# Altium schematic symbol library HW_ADHERENT_SYSCTRL_R1_L3.SchLib: 1629 symbols (part 2 of 31)
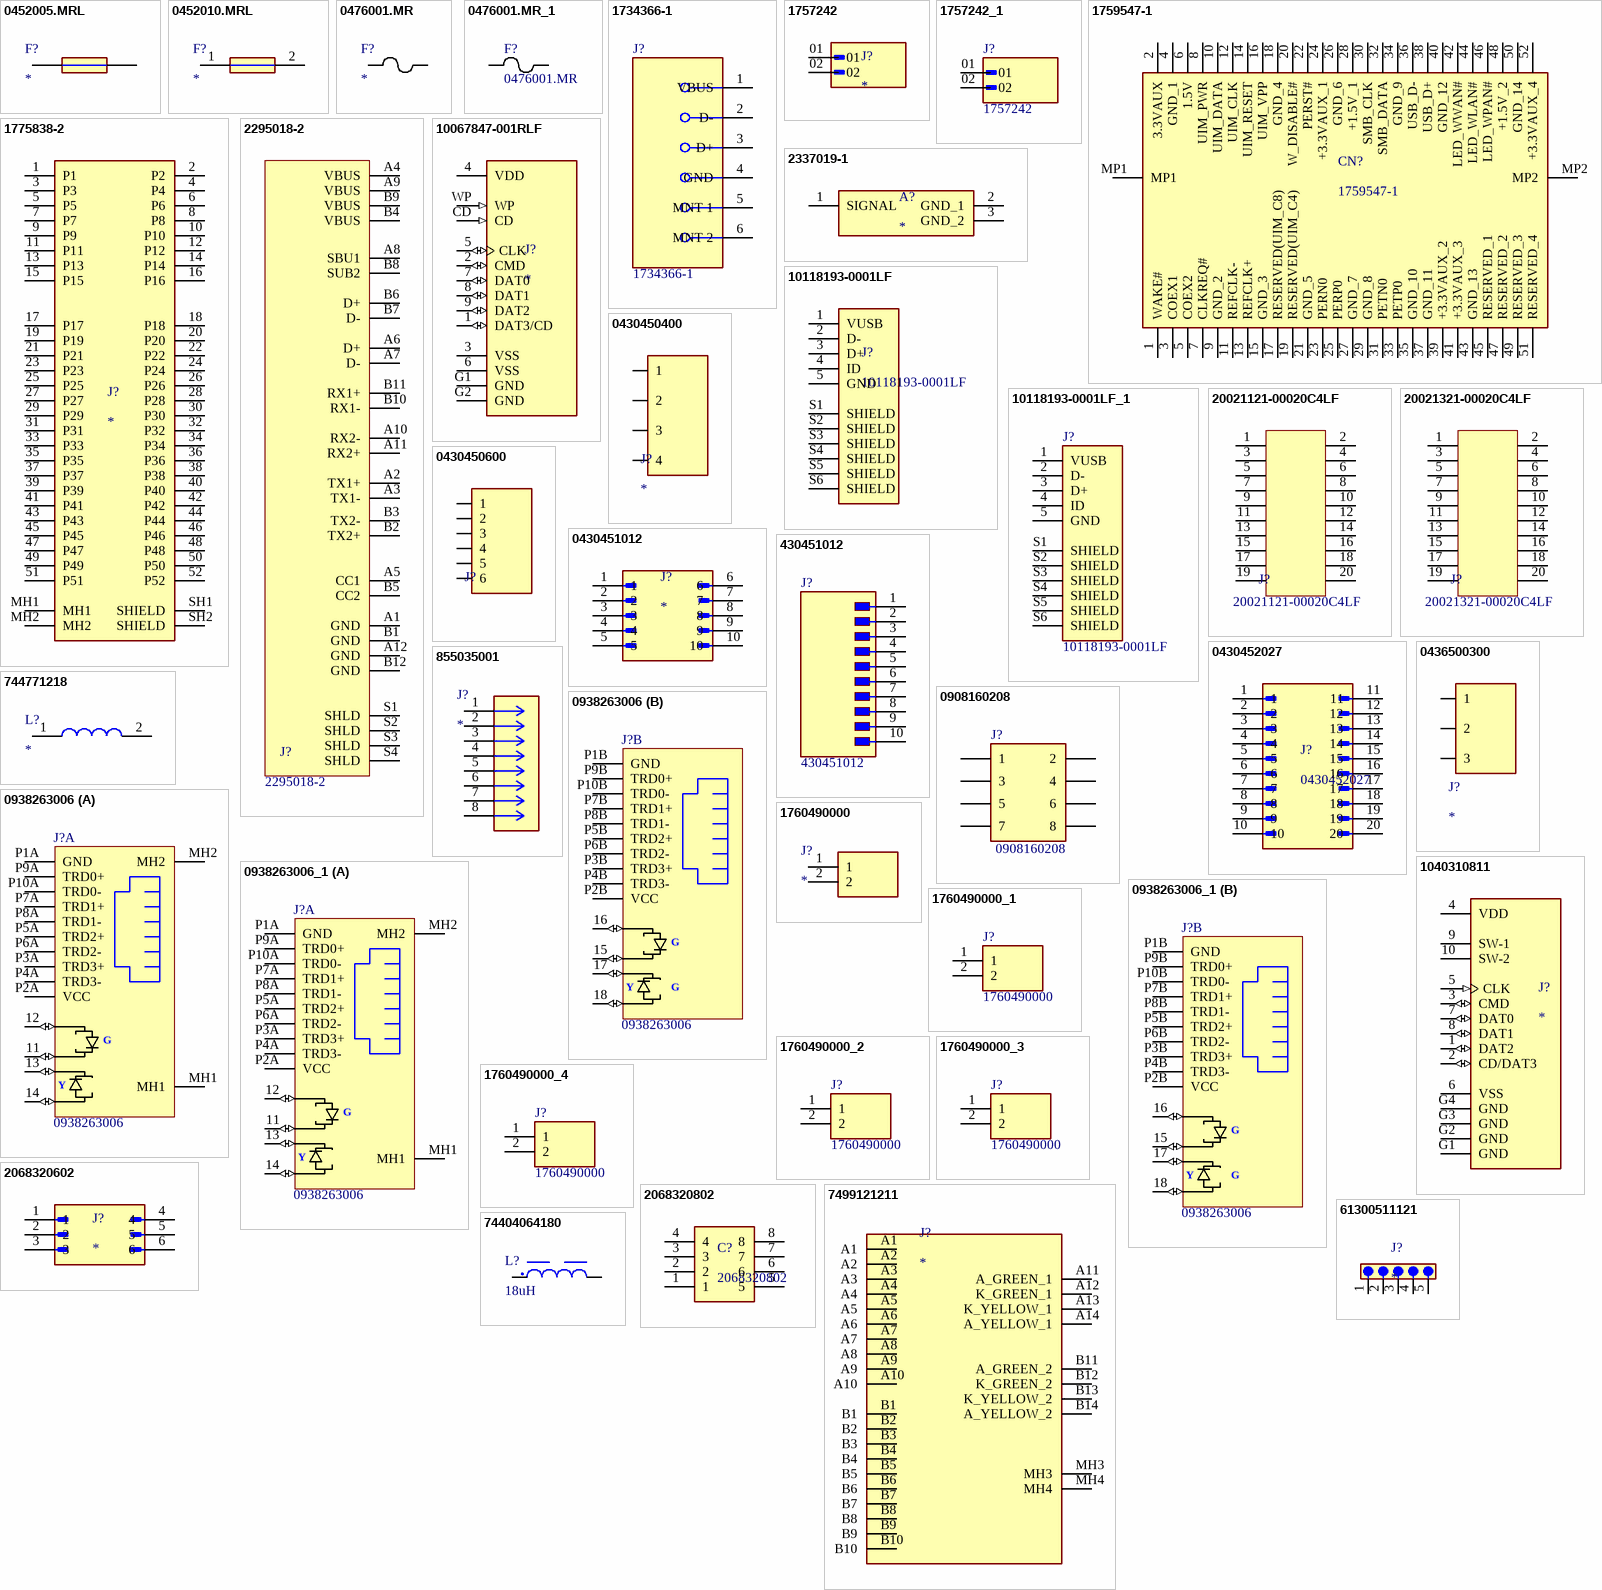
[diagram p52: symbols 0452005.MRL to 74404064180]

## 1759547-1
designator CN?
Conn Mini PCI Express Card Edge SKT 52 POS Solder RA SMD T/R; Manufacturer: TE Connectivity; Circuit Application: 5778ConnectorType; Current Rating: 500mA; Sealable: 5964ProductFeature; Stack Height: 7mm; Supplier 1: Digikey; Manufacturer Part Number: 1759547-1; RoHS: Yes; Category: Card Edge Connectors; Stock 1: 4950; Pricing 1: 450=1.16253, 900=1.05803, 1350=0.94701, 3150=0.87516, 11250=0.8083 (USD); ComponentLink1URL: https://datasheet.ciiva.com/29728/eng-cd-1759547-h1-29728549.pdf?src-supplier=Digikey; ComponentLink1Description: https://datasheet.ciiva.com/29728/eng-cd-1759547-h1-29728549.pdf?src-supplier=Digikey; Supplier Part Number 1: A117296TR-ND
footprint 17595471
pins: 1 WAKE#, 2 3.3VAUX, 3 COEX1, 4 GND_1, 5 COEX2, 6 1.5V, 7 CLKREQ#, 8 UIM_PWR, 9 GND_2, 10 UIM_DATA, 11 REFCLK-, 12 UIM_CLK, 13 REFCLK+, 14 UIM_RESET, 15 GND_3, 16 UIM_VPP, 17 RESERVED(UIM_C8), 18 GND_4, 19 RESERVED(UIM_C4), 20 W_DISABLE#, 21 GND_5, 22 PERST#, 23 PERN0, 24 +3.3VAUX_1, 25 PERP0, 26 GND_6, 27 GND_7, 28 +1.5V_1, 29 GND_8, 30 SMB_CLK, 31 PETN0, 32 SMB_DATA, 33 PETP0, 34 GND_9, 35 GND_10, 36 USB_D-, 37 GND_11, 38 USB_D+, 39 +3.3VAUX_2, 40 GND_12, 41 +3.3VAUX_3, 42 LED_WWAN#, 43 GND_13, 44 LED_WLAN#, 45 RESERVED_1, 46 LED_WPAN#, 47 RESERVED_2, 48 +1.5V_2, 49 RESERVED_3, 50 GND_14, 51 RESERVED_4, 52 +3.3VAUX_4, MP1, MP2

## 1775838-2
designator J?
Conn Mini PCI Express Card Edge SKT 52 POS 0.8mm Solder RA SMD T/R; Manufacturer: TE Connectivity AMP; Manufacturer Part Number: 1775838-2; Connector Type: Receptacle; High Temperature Housing: Yes; Number of Positions: 52; PCB Mount Retention: Without; PCB Mounting Orientation: Vertical; Stackable: No; Gender: Female; Circuit Application: 5778ConnectorType; Current Rating: 500mA; Sealable: 5964ProductFeature; Voltage Rating: 1.5V; Row Spacing: 0.031inch; Stack Height: 5.6mm; Supplier 1: Digikey; RoHS: Yes; Category: Card Edge Connectors; Stock 1: 7500; Pricing 1: 500=0.83842, 1000=0.75098, 2500=0.69955, 5000=0.67897, 12500=0.6366 (USD); Mount: Surface Mount; Contact Plating: Gold; Contact Material: Copper Alloy; Housing Color: Black; Housing Material: Thermoplastic; Color: Black; Insulation Material: Polymer; Min Operating Temperature: -55°C; Max Operating Temperature: 85°C; Number of Rows: 2; Packaging: Tape and Reel; Termination: Solder; Orientation: Right Angle; Package Quantity: 500; Series: -; Contact Type: -; Pitch: 0.8mm; Lead Free: Lead Free; ELV: Compliant; Flammability Rating: UL94 V-0; RoHS Compliant: Yes; ComponentLink1URL: https://datasheet.ciiva.com/10924/eng-ds-8-1773459-7-express-mini-card-qrg-1011-10924539.pdf?src-supplier=Avnet; ComponentLink1Description: https://datasheet.ciiva.com/10924/eng-ds-8-1773459-7-express-mini-card-qrg-1011-10924539.pdf?src-supplier=Avnet; ComponentLink2URL: https://datasheet.ciiva.com/48777/eng-ds-8-1773459-7-express-mini-card-qrg-1011-48777258.pdf?src-supplier=Onlinecomponents.com; ComponentLink2Description: https://datasheet.ciiva.com/48777/eng-ds-8-1773459-7-express-mini-card-qrg-1011-48777258.pdf?src-supplier=Onlinecomponents.com; Supplier Part Number 1: A123340TR-ND
footprint TE_1775838-2
pins: 1 P1, 2 P2, 3 P3, 4 P4, 5 P5, 6 P6, 7 P7, 8 P8, 9 P9, 10 P10, 11 P11, 12 P12, 13 P13, 14 P14, 15 P15, 16 P16, 17 P17, 18 P18, 19 P19, 20 P20, 21 P21, 22 P22, 23 P23, 24 P24, 25 P25, 26 P26, 27 P27, 28 P28, 29 P29, 30 P30, 31 P31, 32 P32, 33 P33, 34 P34, 35 P35, 36 P36, 37 P37, 38 P38, 39 P39, 40 P40, 41 P41, 42 P42, 43 P43, 44 P44, 45 P45, 46 P46, 47 P47, 48 P48, 49 P49, 50 P50, 51 P51, 52 P52, MH1, MH2, SH1 SHIELD, SH2 SHIELD

## 2295018-2
designator J?, comment Manufacturer Part Number: 2295018-2  (hidden comment: CONN RCPT USB3.1 TYPEC 24POS SMD)
USB-C (USB TYPE-C) USB 3.2 Gen 2 (USB 3.1 Gen 2, Superspeed + (USB 3.1)) Receptacle Connector 24 Position Board Cutout, Surface Mount, Right Angle; Through Hole; Manufacturer: TE Connectivity; Cost 1000: 1.64; Order Code: DIGI: A124377TR-ND; Cost: 2.26
footprint USB Type C, Right, PCB Notched (USB Type C, Right, PCB Notched, TE Connectivity 2295018-2)
pins: A1 GND, A2 TX1+, A3 TX1-, A4 VBUS, A5 CC1, A6 D+, A7 D-, A8 SBU1, A9 VBUS, A10 RX2-, A11 RX2+, A12 GND, B1 GND, B2 TX2+, B3 TX2-, B4 VBUS, B5 CC2, B6 D+, B7 D-, B8 SUB2, B9 VBUS, B10 RX1-, B11 RX1+, B12 GND, S1 SHLD, S2 SHLD, S3 SHLD, S4 SHLD

## 2337019-1
designator A?
RF Connector; Coaxial Connectors MicroCoax receptacle UMCC Gen 1; Manufacturer: TE Connectivity; Manufacturer Part Number: 2337019-1; Body Material: Copper Alloy; Center Contact Plating: Gold; Dielectric Material: Thermoplastic; Connector Type: Receptacle,Male Pin; Impedance: 50R; Max Frequency: 6GHz; Number of Ports: 1; Number of Contacts: 1NUMBER; PCB Mounting Orientation: 5491OrientationType; Sealable: 5964ProductFeature; Supplier 1: Digikey; RoHS: Yes; Category: RF / Coaxial Connectors; Stock 1: 20000; Pricing 1: 10000=0.10043, 30000=0.08976, 50000=0.07784 (USD); Mount: Surface Mount; Contact Material: Copper Alloy; Housing Color: 46Colour; Min Operating Temperature: -40°C; Max Operating Temperature: 85°C; Series: -; Packaging: Cut Tape; Termination: Solder; Frequency: 6GHz; Number of Positions: 1NUMBER; Orientation: 5495OrientationType; Height: 1.4mm; ComponentLink1URL: https://www.te.com/commerce/DocumentDelivery/DDEController?Action=srchrtrv&amp;DocNm=C-2337019&amp;DocType=Customer+Drawing&amp;DocLang=English&src-supplier=Digikey; ComponentLink1Description: https://www.te.com/commerce/DocumentDelivery/DDEController?Action=srchrtrv&amp;DocNm=C-2337019&amp;DocType=Customer+Drawing&amp;DocLang=English&src-supplier=Digikey; ComponentLink2URL: https://datasheet.octopart.com/2337019-1-TE-Connectivity-datasheet-169146699.pdf?src-supplier=Sager+Electronics; ComponentLink2Description: https://datasheet.octopart.com/2337019-1-TE-Connectivity-datasheet-169146699.pdf?src-supplier=Sager+Electronics; Supplier Part Number 1: A144746TR-ND
footprint 23370191
pins: 1 SIGNAL, 2 GND_1, 3 GND_2

## 10067847-001RLF
designator J?
CONN SD CARD PUSH-PUSH SMD; Manufacturer: Amphenol ICC / FCI; Manufacturer Part Number: 10067847-001RLF; Number of Contacts: 11; Voltage Rating (AC): 17V; Current Rating: 500mA; Insulation Resistance: 1GR; Gender: Female; Pitch: 3.325mm; Supplier 1: Digikey; RoHS: No; Category: Memory Connectors; Stock 1: 34800; Pricing 1: 300=1,54767, 600=1,42548, 900=1,38476, 1500=1,18112, 3000=1,14039, 7500=1,08337 (USD); Mount: Surface Mount,Standard; Contact Plating: Gold; Contact Material: Copper Alloy,Copper; Housing Material: Polymer; Min Operating Temperature: -40°C; Max Operating Temperature: 105°C; Orientation: Right Angle; Termination: Solder; Number of Rows: 1; Series: -; Packaging: Tape and Reel; Package Quantity: 300; Length: 28.5mm; Width: 29mm; Height: 2.8mm; Depth: 2.8mm; Radiation Hardening: No; Reach SVHC Compliant: No; Flammability Rating: UL94 V-0; ComponentLink1URL: http://components.arrow.com/part/dataview/46501167S9941171N8314?src-supplier=Arrow+Electronics; ComponentLink1Description: http://components.arrow.com/part/dataview/46501167S9941171N8314?src-supplier=Arrow+Electronics; Supplier Part Number 1: 609-3956-2-ND
footprint AMPHENOL_10067847-001RLF
pins: 1 DAT3/CD (io), 2 CMD (io), 3 VSS, 4 VDD (power), 5 CLK (io), 6 VSS, 7 DAT0 (io), 8 DAT1 (io), 9 DAT2 (io), CD (in), G1 GND, G2 GND, WP (in)

## 10118193-0001LF
designator J?
Right Angle Surface Mount Mount Female USB Connector 100 V ac 1.8A | Amphenol FCI (Amphenol CS) 10118193-0001LF; MF: Amphenol ICC; SnapEDA_Link: https://www.snapeda.com/parts/10118193-0001LF/Amphenol+FCI/view-part/?ref=snap; Package: None; Value: *; MP: 10118193-0001LF; Check_prices: https://www.snapeda.com/parts/10118193-0001LF/Amphenol+FCI/view-part/?ref=eda
footprint AMPHENOL_10118193-0001LF
pins: 1 VUSB, 2 D-, 3 D+, 4 ID, 5 GND, S1 SHIELD, S2 SHIELD, S3 SHIELD, S4 SHIELD, S5 SHIELD, S6 SHIELD

## 10118193-0001LF_1
designator J?, comment 10118193-0001LF
Right Angle Surface Mount Mount Female USB Connector 100 V ac 1.8A | Amphenol FCI (Amphenol CS) 10118193-0001LF; MF: Amphenol ICC; SnapEDA_Link: https://www.snapeda.com/parts/10118193-0001LF/Amphenol+FCI/view-part/?ref=snap; Package: None; Value: *; MP: 10118193-0001LF; Check_prices: https://www.snapeda.com/parts/10118193-0001LF/Amphenol+FCI/view-part/?ref=eda
footprint AMPHENOL_10118193-0001LF
pins: 1 VUSB, 2 D-, 3 D+, 4 ID, 5 GND, S1 SHIELD, S2 SHIELD, S3 SHIELD, S4 SHIELD, S5 SHIELD, S6 SHIELD

## 20021121-00020C4LF
designator J?, comment Manufacturer Part Number: 20021121-00020C4LF  (hidden comment: CONN HEADER SMD 20POS 1.27MM)
Connector Header Surface Mount 20 position 0.050" (1.27mm); Order Code: DIGI: 609-3698-2-ND
footprint 20pos 1.27mm Header SMD
pins: 1, 2, 3, 4, 5, 6, 7, 8, 9, 10, 11, 12, 13, 14, 15, 16, 17, 18, 19, 20

## 20021321-00020C4LF
designator J?, comment Manufacturer Part Number: 20021321-00020C4LF  (hidden comment: CONN RCPT 20POS 0.05 GOLD SMD)
20 Position Receptacle Connector 0.050" (1.27mm) Surface Mount Gold; Order Code: DIGI: 609-3709-2-ND
footprint 20pos 1.27mm Socket SMD
pins: 1, 2, 3, 4, 5, 6, 7, 8, 9, 10, 11, 12, 13, 14, 15, 16, 17, 18, 19, 20

## 0430450400
designator J?
Connector Header Through Hole, Right Angle 4 position 0.118" (3.00mm); Manufacturer Part Number: 0430450400; Manufacturer: MOLEX; Supplier: Digi; WM1814-ND
footprint CONN_SD-43045-001_04_MOL
pins: 1, 2, 3, 4

## 0430450600
designator J?
Connector Header Through Hole, Right Angle 6 position 0.118" (3.00mm)
footprint CONN_SD-43045-001_06_MOL
pins: 1, 2, 3, 4, 5, 6

## 0430451012
designator J?
Header 2 Row Vertical Polarizing Peg 10Pin Tin Plate SMT/Glow Wire Kinked Leads; Manufacturer: Molex; Manufacturer Part Number: 0430451012; Supplier 1: Digikey; RoHS: Yes; Stock 1: 57028; Pricing 1: 1=2.6, 10=2.215, 80=1.82975, 1224=1.44455, 6120=1.28084 (USD); Supplier Part Number 1: WM1793-ND
footprint MOLEX_430451012
pins: 1, 2, 3, 4, 5, 6, 7, 8, 9, 10

## 430451012
designator J?
Micro-Fit 3.0 Right-Angle Header, 3.00mm Pitch, Dual Row, 10 Circuits, with Solder Tab, Glow-Wire Capable, Black, Tape and Reel; Manufacturer_Name: Molex; Geometry.Height: 10.16mm; Manufactuer part Number: 430451012; Mouser Part Number: *; Mouser Price/Stock: *; Arrow Part Number: *; Arrow Price/Stock: *; Datasheet Link: https://www.molex.com/pdm_docs/sd/430450209_sd.pdf
footprint 4304510YY_12
pins: 1, 2, 3, 4, 5, 6, 7, 8, 9, 10

## 0430452027
designator J?
Conn Power HDR 20 POS 3mm Solder ST Thru-Hole 20 Terminal 1 Port Micro-Fit 3.0™ Frame; Manufacturer: Molex; Supplier 1: Digikey; Manufacturer Part Number: 0430452027; RoHS: Yes; Stock 1: 1475; Pricing 1: 1=5.55, 10=4.88, 80=3.88175, 1296=3.21633, 2592=2.99452 (USD); ComponentLink1URL: https://datasheet.octopart.com/43045-2027-Molex-datasheet-101582732.pdf?src-supplier=Newark; ComponentLink1Description: https://datasheet.octopart.com/43045-2027-Molex-datasheet-101582732.pdf?src-supplier=Newark; Supplier Part Number 1: WM10726-ND
footprint MOLEX_430452027
pins: 1, 2, 3, 4, 5, 6, 7, 8, 9, 10, 11, 12, 13, 14, 15, 16, 17, 18, 19, 20

## 0436500300
designator J?
Connector Header Through Hole, Right Angle 3 position 0.118" (3.00mm)
footprint CONN_SD-43650-001_03_MOL
pins: 1, 2, 3

## 744771218
designator L?
Inductor; Manufacturer_Name: Wurth Elektronik; Manufacturer_Part_Number: 744771218
footprint WE-PD_1260/1245/1280/121054
pins: 1, 2

## 855035001
designator J?
MP: 855035001; Package: None; Price: None; Value: *; Availability: Unavailable
footprint CONN_855035-101_MOL
pins: 1, 2, 3, 4, 5, 6, 7, 8

## 0908160208
designator J?, comment Manufacturer Part Number: 0908160208  (hidden comment: CONN HEADER SMD 8POS 1.27MM)
Connector Header Surface Mount 8 position 0.050" (1.27mm); Order Code: Digi: WM14393TR-ND
footprint Molex Picoflex header 8 SMT latching
pins: 1, 2, 3, 4, 5, 6, 7, 8

## 0938263006
designator J?
MXMAG DUAL PORT 8 CORE GIG W/ LE; Manufacturer: Molex; Manufacturer Part Number: 0938263006; Value: 0938263006
footprint DUAL_ETH_0938263008 (0938263008)
part A pins: 11 (io), 12 (io), 13 (io), 14 (io), MH1 (power), MH2 (power), P1A GND, P2A VCC, P3A TRD3+, P4A TRD3-, P5A TRD2+, P6A TRD2-, P7A TRD1+, P8A TRD1-, P9A TRD0+, P10A TRD0-
part B pins: 15 (io), 16 (io), 17 (io), 18 (io), P1B GND, P2B VCC, P3B TRD3+, P4B TRD3-, P5B TRD2+, P6B TRD2-, P7B TRD1+, P8B TRD1-, P9B TRD0+, P10B TRD0-
1 alternate drawing of the same symbol
part A text: G; Y
part B text: G; Y

## 0938263006_1
designator J?, comment 0938263006
MXMAG DUAL PORT 8 CORE GIG W/ LE; Manufacturer: Molex; Manufacturer Part Number: 0938263006; Value: 0938263006
footprint DUAL_ETH_0938263008 (0938263008)
part A pins: 11 (io), 12 (io), 13 (io), 14 (io), MH1 (power), MH2 (power), P1A GND, P2A VCC, P3A TRD3+, P4A TRD3-, P5A TRD2+, P6A TRD2-, P7A TRD1+, P8A TRD1-, P9A TRD0+, P10A TRD0-
part B pins: 15 (io), 16 (io), 17 (io), 18 (io), P1B GND, P2B VCC, P3B TRD3+, P4B TRD3-, P5B TRD2+, P6B TRD2-, P7B TRD1+, P8B TRD1-, P9B TRD0+, P10B TRD0-
1 alternate drawing of the same symbol
part A text: G; Y
part B text: G; Y

## 1040310811
designator J?
1.10mm Pitch microSD Memory Card Connector, SMT, Push-Pull Type, 1.42mm Height, with Detect Switch; Manufacturer: Molex; Manufacturer Part Number: 1040310811; Number of Contacts: 8; Gender: Female; Pitch: 1.1mm; Supplier 1: Digikey; RoHS: Yes; Category: Memory Connectors; Stock 1: 36000; Pricing 1: 2000=1.20529, 4000=1.16372, 6000=1.10554 (USD); Mount: Surface Mount; Contact Material: Bronze; Contact Plating: Gold; Housing Material: Polymer; Min Operating Temperature: -25°C; Max Operating Temperature: 85°C; Number of Rows: 1; Orientation: Right Angle; Packaging: Tape and Reel; Termination: Solder; Number of Circuits: 8; Series: 103041; Length: 11.14mm; Width: 11.4mm; Depth: 11.4mm; Radiation Hardening: No; Halogen Free: Low Halogen; Reach SVHC Compliant: Unknown; ComponentLink1URL: https://datasheet.ciiva.com/4581/1040310811-memory-card-socket-153593-4581012.pdf?src-supplier=Mouser; ComponentLink1Description: https://datasheet.ciiva.com/4581/1040310811-memory-card-socket-153593-4581012.pdf?src-supplier=Mouser; ComponentLink2URL: https://datasheet.ciiva.com/683/1040310811-sd-683579.pdf?src-supplier=Digikey; ComponentLink2Description: https://datasheet.ciiva.com/683/1040310811-sd-683579.pdf?src-supplier=Digikey; ComponentLink3URL: https://datasheet.ciiva.com/16655/1040310811-memory-card-socket-16655292.pdf?; ComponentLink3Description: https://datasheet.ciiva.com/16655/1040310811-memory-card-socket-16655292.pdf?; ComponentLink4URL: https://datasheet.ciiva.com/3121/1040310811-memory-card-socket-3121437.pdf?src-supplier=Avnet; ComponentLink4Description: https://datasheet.ciiva.com/3121/1040310811-memory-card-socket-3121437.pdf?src-supplier=Avnet; ComponentLink5URL: https://datasheet.ciiva.com/683/1040310811-sd-683580.pdf?src-supplier=Digikey; ComponentLink5Description: https://datasheet.ciiva.com/683/1040310811-sd-683580.pdf?src-supplier=Digikey; ComponentLink6URL: https://datasheet.ciiva.com/683/1040310811-sd-683581.pdf?src-supplier=Digikey; ComponentLink6Description: https://datasheet.ciiva.com/683/1040310811-sd-683581.pdf?src-supplier=Digikey; ComponentLink7URL: https://datasheet.ciiva.com/15174/getdatasheetpartid-716154-15174887.pdf?src-supplier=Verical; ComponentLink7Description: https://datasheet.ciiva.com/15174/getdatasheetpartid-716154-15174887.pdf?src-supplier=Verical; Supplier Part Number 1: WM6357TR-ND
footprint MOLEX_104031-0811
pins: 1 DAT2 (io), 2 CD/DAT3 (io), 3 CMD (io), 4 VDD (power), 5 CLK (in), 6 VSS, 7 DAT0 (io), 8 DAT1 (io), 9 SW-1, 10 SW-2, G1 GND, G2 GND, G3 GND, G4 GND

## 1760490000
designator J?
Connector; Manufacturer_Name: Weidmuller; Manufacturer_Part_Number: 1760490000; Datasheet Link: http://catalog.weidmueller.com/createDatasheetForMobile.do?ordernumber=1760490000&scope1=1&scope2=1&localeId=en; Height: 10mm; Mouser Part Number: 470-1760490000; Mouser Price/Stock: https://www.mouser.co.uk/ProductDetail/Weidmuller/1760490000?qs=BTG2th8YmhSgE91WNOZiVA%3D%3D; Arrow Part Number: 1760490000; Arrow Price/Stock: https://www.arrow.com/en/products/1760490000/weidmuller?region=europe
footprint 1760490000
pins: 1, 2

## 1760490000_1
designator J?, comment 1760490000
Connector; Manufacturer_Name: Weidmuller; Datasheet Link: http://catalog.weidmueller.com/createDatasheetForMobile.do?ordernumber=1760490000&scope1=1&scope2=1&localeId=en; Height: 10mm; Manufacturer_Part_Number: 1760490000; Mouser Part Number: 470-1760490000; Mouser Price/Stock: https://www.mouser.co.uk/ProductDetail/Weidmuller/1760490000?qs=BTG2th8YmhSgE91WNOZiVA%3D%3D; Arrow Part Number: 1760490000; Arrow Price/Stock: https://www.arrow.com/en/products/1760490000/weidmuller?region=europe
footprint 1760490000
pins: 1, 2

## 1760490000_2
designator J?, comment 1760490000
Connector; Manufacturer_Name: Weidmuller; Datasheet Link: http://catalog.weidmueller.com/createDatasheetForMobile.do?ordernumber=1760490000&scope1=1&scope2=1&localeId=en; Height: 10mm; Manufacturer_Part_Number: 1760490000; Mouser Part Number: 470-1760490000; Mouser Price/Stock: https://www.mouser.co.uk/ProductDetail/Weidmuller/1760490000?qs=BTG2th8YmhSgE91WNOZiVA%3D%3D; Arrow Part Number: 1760490000; Arrow Price/Stock: https://www.arrow.com/en/products/1760490000/weidmuller?region=europe
footprint 1760490000
pins: 1, 2

## 1760490000_3
designator J?, comment 1760490000
Connector; Manufacturer_Name: Weidmuller; Datasheet Link: http://catalog.weidmueller.com/createDatasheetForMobile.do?ordernumber=1760490000&scope1=1&scope2=1&localeId=en; Height: 10mm; Manufacturer_Part_Number: 1760490000; Mouser Part Number: 470-1760490000; Mouser Price/Stock: https://www.mouser.co.uk/ProductDetail/Weidmuller/1760490000?qs=BTG2th8YmhSgE91WNOZiVA%3D%3D; Arrow Part Number: 1760490000; Arrow Price/Stock: https://www.arrow.com/en/products/1760490000/weidmuller?region=europe
footprint 1760490000
pins: 1, 2

## 1760490000_4
designator J?, comment 1760490000
Connector; Manufacturer_Name: Weidmuller; Datasheet Link: http://catalog.weidmueller.com/createDatasheetForMobile.do?ordernumber=1760490000&scope1=1&scope2=1&localeId=en; Height: 10mm; Manufacturer_Part_Number: 1760490000; Mouser Part Number: 470-1760490000; Mouser Price/Stock: https://www.mouser.co.uk/ProductDetail/Weidmuller/1760490000?qs=BTG2th8YmhSgE91WNOZiVA%3D%3D; Arrow Part Number: 1760490000; Arrow Price/Stock: https://www.arrow.com/en/products/1760490000/weidmuller?region=europe
footprint 1760490000
pins: 1, 2

## 2068320602
designator J?
MP: 2068320602; Value: *; Package: None; Price: None; Availability: Unavailable
footprint 2068320602
pins: 1, 2, 3, 4, 5, 6

## 2068320802
designator C?
Micro-Fit+ Vertical Header 3mm Dual Row 8 Position 0.38um Gold Plating UL 94V-0 Glow-Wire Capable Black; Manufacturer: Molex; Supplier 1: Digikey; Manufacturer Part Number: 2068320802; RoHS: Yes; Category: Headers and Wire Housings; Stock 1: 4321; Pricing 1: 1=3.45, 10=3.039, 150=2.4176, 1050=2.00314, 4950=1.79592 (USD); Supplier Part Number 1: 900-2068320802-ND
footprint 2068320802
pins: 1, 2, 3, 4, 5, 6, 7, 8

## 7499121211
designator J?
Connector; Manufacturer_Name: Wurth Elektronik; Manufacturer_Part_Number: 7499121211; Datasheet Link: http://katalog.we-online.de/pbs/datasheet/7499121211.pdf; Height: 13.6mm; Mouser Part Number: 710-7499121211; Mouser Price/Stock: https://www.mouser.co.uk/ProductDetail/Wurth-Elektronik/7499121211?qs=J4sk5G6CMwblJAK5%2FB7b4Q%3D%3D
footprint 7499121211
pins: A1, A2, A3, A4, A5, A6, A7, A8, A9, A10, A11 A_GREEN_1, A12 K_GREEN_1, A13 K_YELLOW_1, A14 A_YELLOW_1, B1, B2, B3, B4, B5, B6, B7, B8, B9, B10, B11 A_GREEN_2, B12 K_GREEN_2, B13 K_YELLOW_2, B14 A_YELLOW_2, MH3, MH4

## 61300511121
designator J?
Connector Header Through Hole 5 position 0.100" (2.54mm); MF: {'manufacturer': u'W\xfcrth Elektronik'}; MP: 61300511121; Package: None; Price: None; Value: *; Availability: Unavailable
footprint 61300511121
pins: 1, 2, 3, 4, 5

## 74404064180
designator L?, comment 18uH
18 µH Semi-Shielded Drum Core, Wirewound Inductor 2.2 A 81mOhm Nonstandard; Supplier: 732-5553-6-ND
footprint WE-LQS_6045
pins: 1, 2

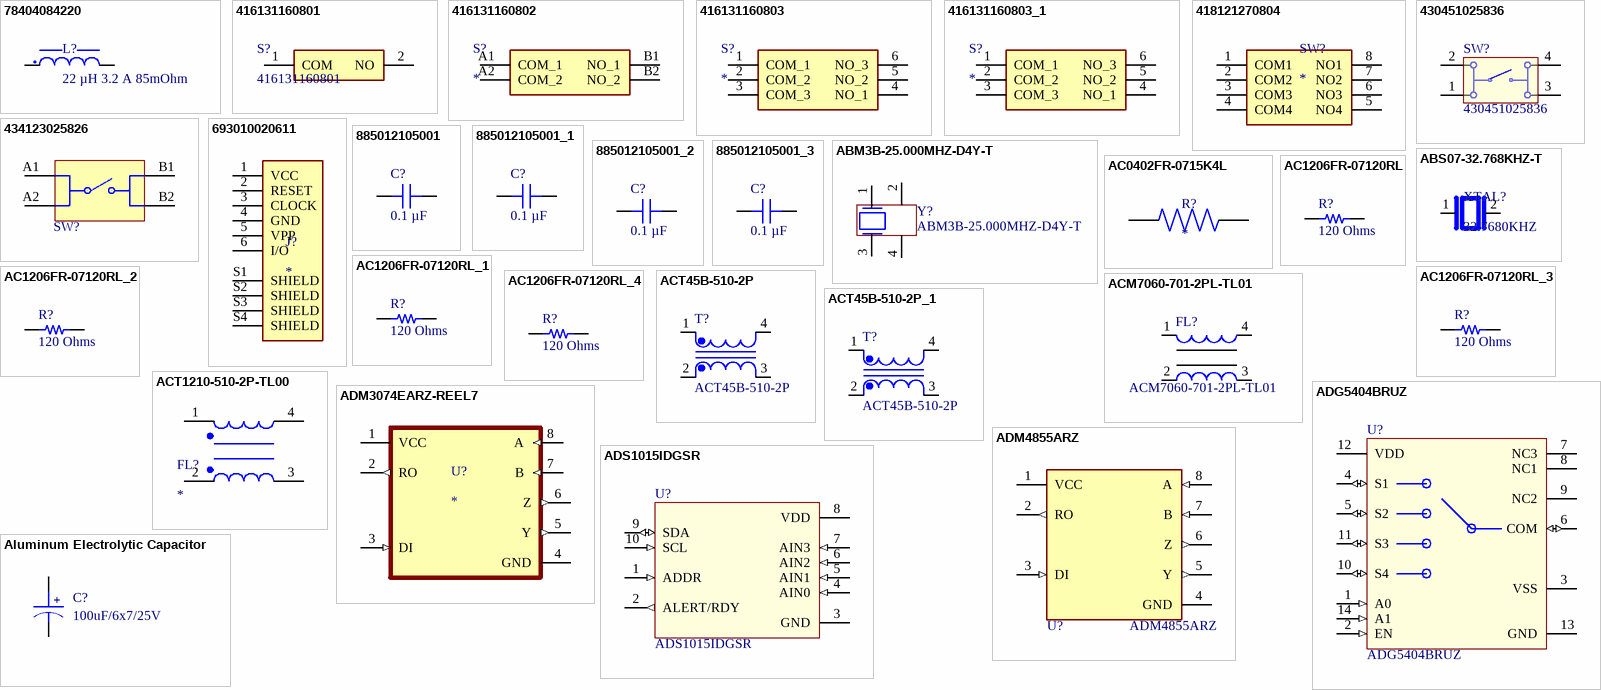
[diagram p3: symbols 78404084220 to Aluminum Electrolytic Capacitor]

## 78404084220
designator L?, comment 22 µH 3.2 A 85mOhm
22 µH Shielded Inductor 3.2 A 85mOhm Max 3131 (8080 Metric); MF: Wurth Elektronik; MP: 78404084220; SnapEDA_Link: https://www.snapeda.com/parts/78404084220/Wurth+Electronics/view-part/?ref=snap; Package: None; Value: *; Check_prices: https://www.snapeda.com/parts/78404084220/Wurth+Electronics/view-part/?ref=eda
footprint WE-LQSA_8040
pins: 1, 2

## 416131160801
designator S?
Dip Switch SPST 1 Position Surface Mount Slide (Standard) Actuator 25mA 24VDC; Manufacturer_Name: Wurth Elektronik; Datasheet Link: https://www.we-online.com/catalog/datasheet/416131160801.pdf; Height: 2.65mm; Manufacturer_Part_Number: 416131160801; Mouser Part Number: 710-416131160801; Mouser Price/Stock: https://www.mouser.co.uk/ProductDetail/Wurth-Elektronik/416131160801?qs=wr8lucFkNMUusJisOatWwg%3D%3D
footprint 416131160801
pins: 1 COM, 2 NO

## 416131160802
designator S?
SwitchDip Switch SPST 2 Position Surface Mount Slide (Standard) Actuator 25mA 24VDC; Manufacturer_Name: Wurth Elektronik; Manufacturer_Part_Number: 416131160802; Datasheet Link: https://www.we-online.com/components/products/download/3D_416131160802+%28rev1%29.pdf; Height: 2.65mm; Mouser Part Number: 710-416131160802; Mouser Price/Stock: https://www.mouser.co.uk/ProductDetail/Wurth-Elektronik/416131160802?qs=wr8lucFkNMXXrgWfPAFqoA%3D%3D
footprint 416131160802
pins: A1 COM_1, A2 COM_2, B1 NO_1, B2 NO_2

## 416131160803
designator S?
416131160803; Manufacturer_Name: Wurth Elektronik; Datasheet Link: https://www.we-online.com/catalog/datasheet/416131160803.pdf; Height: 2.65mm; Manufacturer_Part_Number: 416131160803; Mouser Part Number: 710-416131160803; Mouser Price/Stock: https://www.mouser.co.uk/ProductDetail/Wurth-Elektronik/416131160803?qs=2kOmHSv6VfS5Uv9iBh18ZA%3D%3D
footprint 416131160803
pins: 1 COM_1, 2 COM_2, 3 COM_3, 4 NO_1, 5 NO_2, 6 NO_3

## 416131160803_1
designator S?
Switch; Manufacturer_Name: Wurth Elektronik; Manufacturer_Part_Number: 416131160803; Datasheet Link: https://www.we-online.com/catalog/datasheet/416131160803.pdf; Height: 2.65mm; Mouser Part Number: 710-416131160803; Mouser Price/Stock: https://www.mouser.co.uk/ProductDetail/Wurth-Elektronik/416131160803?qs=2kOmHSv6VfS5Uv9iBh18ZA%3D%3D
footprint 416131160803
pins: 1 COM_1, 2 COM_2, 3 COM_3, 4 NO_1, 5 NO_2, 6 NO_3

## 418121270804
designator SW?
Dip Switch, 0.025A, 24Vdc, 4 Pos, Smd Rohs Compliant: Yes |Wurth Elektronik 418121270804; Manufacturer: Wurth Electronics; Supplier 1: Digikey; Manufacturer Part Number: 418121270804; RoHS: Yes; Category: DIP Switches; Stock 1: 5600; Pricing 1: 800=1.456 (USD); ComponentLink1URL: https://katalog.we-online.de/em/datasheet/4181212708xx.pdf?src-supplier=Digikey; ComponentLink1Description: https://katalog.we-online.de/em/datasheet/4181212708xx.pdf?src-supplier=Digikey; Supplier Part Number 1: 732-6963-2-ND
footprint 418121270804
pins: 1 COM1, 2 COM2, 3 COM3, 4 COM4, 5 NO4, 6 NO3, 7 NO2, 8 NO1

## 430451025836
designator SW?
WS-TASV SMD Tact Switch 6X6 mm; Manufacturer: Wuerth Elektronik; NoPins: 04; ComponentLink1Description: Manufacturer URL; ComponentLink2Description: Datasheet; ComponentLink1URL: http://www.we-online.com; Manufacturer Part Number: 430451025836; ComponentLink2URL: http://katalog.we-online.de/em/datasheet/4304x1.pdf; PackageReference: 430451025836
footprint 430451025836
pins: 1, 2, 3, 4

## 434123025826
designator SW?  (value not drawn)
WS-TASV J-Bend SMT Tact Switch, L4.2 x W3.2 x H2.5mm, 260g, SPST-NO, 16V, 50mA; Manufacturer: Wurth Elektronik; LCSC Manufacturer Part Number: PTS810SJS250SMTRLFS; Washable: No; Manufacturer Part Number: 434123025826; Category: Tact Switches; Match Code: WS-TASV; ComponentLink1Description: Website Link; ComponentLink1URL: https://www.we-online.com/redexpert/article/434123025826?ad; ComponentLink2Description: Datasheet Link; ComponentLink2URL: https://www.we-online.com/redexpert/spec/434123025826?ad; Mount: Surface Mount; Operating Temperature Max: 85°C; Operating Temperature Min: -40°C; Packaging: Tape and Reel; Length: 4.2mm; Width: 3.2mm; Height: 2.5mm; Circuit: SPST-NO; Contact Material: Stainless Steel; Contact Plating: Silver; Operation Force: 260g; Rated Current: 50mA; Rated Voltage (DC): 16V; Terminal Material: Copper Alloy; Terminal Plating: Silver; LCSC Part Number: C221897
footprint WS-TASV_L4.2W3.2H2.5_4341x30258x6
pins: A1, A2, B1, B2

## 693010020611
designator J?
WR-CRD Mini SIM Card Connector Header Shielded; Manufacturer: Wurth Electronics; Manufacturer Part Number: 693010020611; Supplier 1: Digikey; RoHS: Yes; Category: Memory Connectors; Stock 1: 1000; Pricing 1: 1000=1.04 (USD); ComponentLink1URL: https://datasheet.ciiva.com/25605/0900766b81113f2a-25605361.pdf?src-supplier=Rs; ComponentLink1Description: https://datasheet.ciiva.com/25605/0900766b81113f2a-25605361.pdf?src-supplier=Rs; ComponentLink2URL: https://datasheet.ciiva.com/1104/693010020611-1104791.pdf?src-supplier=Element14; ComponentLink2Description: https://datasheet.ciiva.com/1104/693010020611-1104791.pdf?src-supplier=Element14; ComponentLink3URL: https://datasheet.ciiva.com/6934/693010020611-6934683.pdf?src-supplier=Digikey; ComponentLink3Description: https://datasheet.ciiva.com/6934/693010020611-6934683.pdf?src-supplier=Digikey; ComponentLink4URL: https://datasheet.ciiva.com/6934/693010020611-6934685.pdf?src-supplier=Digikey; ComponentLink4Description: https://datasheet.ciiva.com/6934/693010020611-6934685.pdf?src-supplier=Digikey; ComponentLink5URL: https://datasheet.ciiva.com/6934/693010020611-6934687.pdf?src-supplier=Digikey; ComponentLink5Description: https://datasheet.ciiva.com/6934/693010020611-6934687.pdf?src-supplier=Digikey; ComponentLink6URL: https://datasheet.ciiva.com/48686/001088834-da-01-en-wr-crd-sim-kartensockel-693010020611-48686971.pdf?src-supplier=Conrad; ComponentLink6Description: https://datasheet.ciiva.com/48686/001088834-da-01-en-wr-crd-sim-kartensockel-693010020611-48686971.pdf?src-supplier=Conrad; Supplier Part Number 1: 732-3814-2-ND
footprint WURTH_693010020611
pins: 1 VCC, 2 RESET, 3 CLOCK, 4 GND, 5 VPP, 6 I/O, S1 SHIELD, S2 SHIELD, S3 SHIELD, S4 SHIELD

## 885012105001
designator C?, comment 0.1 µF
CAP CER 0.1UF 6.3V X5R 0402; Part Number: 885012105001; manufacturer: Würth Elektronik; Tolerance: ±20%; Value: 0.1 µF; Applications: General Purpose; Capacitance: 0.1 µF; componentlink1description: Datasheet; componentlink1url: https://katalog.we-online.de/pbs/datasheet/885012105001.pdf; componentlink2description: DigiKey Link; componentlink2url: https://www.digikey.com/en/products/detail/würth-elektronik/885012105001/5453333; Device Package: 0402 (1005 Metric); lastupdated: 2/9/2024 8:04:37 PM; Lifecycle Status: Active; Minimum Order: 1; Mounting Type: Surface Mount, MLCC; Operating Temperature: -55°C ~ 85°C; Package / Case: 0402 (1005 Metric); packaging: TapeAndReel; partid: 1931; Part Status: Active; price: 0.01; series: WCAP-CSGP; Size / Dimension: 0.039" L x 0.020" W (1.00mm x 0.50mm); Supplier 1: DigiKey; Supplier Part Number 1: 732-7478-1-ND; Temperature Coefficient: X5R; Thickness (Max): 0.022" (0.55mm); Voltage - Rated: 6.3V
footprint CAP 0402_1005
pins: 1, 2

## 885012105001_1
designator C?, comment 0.1 µF
CAP CER 0.1UF 6.3V X5R 0402; Part Number: 885012105001; manufacturer: Würth Elektronik; Tolerance: ±20%; Applications: General Purpose; Capacitance: 0.1 µF; componentlink1description: Datasheet; componentlink1url: https://katalog.we-online.de/pbs/datasheet/885012105001.pdf; componentlink2description: DigiKey Link; componentlink2url: https://www.digikey.com/en/products/detail/würth-elektronik/885012105001/5453333; Device Package: 0402 (1005 Metric); lastupdated: 2/9/2024 8:04:37 PM; Lifecycle Status: Active; Minimum Order: 1; Mounting Type: Surface Mount, MLCC; Operating Temperature: -55°C ~ 85°C; Package / Case: 0402 (1005 Metric); packaging: TapeAndReel; partid: 1931; Part Status: Active; price: 0.01; series: WCAP-CSGP; Size / Dimension: 0.039" L x 0.020" W (1.00mm x 0.50mm); Supplier 1: DigiKey; Supplier Part Number 1: 732-7478-1-ND; Temperature Coefficient: X5R; Thickness (Max): 0.022" (0.55mm); Voltage - Rated: 6.3V; Value: 0.1 µF
footprint CAP 0402_1005
pins: 1, 2

## 885012105001_2
designator C?, comment 0.1 µF
CAP CER 0.1UF 6.3V X5R 0402; Part Number: 885012105001; manufacturer: Würth Elektronik; Tolerance: ±20%; Value: 0.1 µF; Applications: General Purpose; Capacitance: 0.1 µF; componentlink1description: Datasheet; componentlink1url: https://katalog.we-online.de/pbs/datasheet/885012105001.pdf; componentlink2description: DigiKey Link; componentlink2url: https://www.digikey.com/en/products/detail/würth-elektronik/885012105001/5453333; Device Package: 0402 (1005 Metric); lastupdated: 2/9/2024 8:04:37 PM; Lifecycle Status: Active; Minimum Order: 1; Mounting Type: Surface Mount, MLCC; Operating Temperature: -55°C ~ 85°C; Package / Case: 0402 (1005 Metric); packaging: TapeAndReel; partid: 1931; Part Status: Active; price: 0.01; series: WCAP-CSGP; Size / Dimension: 0.039" L x 0.020" W (1.00mm x 0.50mm); Supplier 1: DigiKey; Supplier Part Number 1: 732-7478-1-ND; Temperature Coefficient: X5R; Thickness (Max): 0.022" (0.55mm); Voltage - Rated: 6.3V
footprint CAP 0402_1005
pins: 1, 2

## 885012105001_3
designator C?, comment 0.1 µF
CAP CER 0.1UF 6.3V X5R 0402; Part Number: 885012105001; manufacturer: Würth Elektronik; Tolerance: ±20%; Value: 0.1 µF; Applications: General Purpose; Capacitance: 0.1 µF; componentlink1description: Datasheet; componentlink1url: https://katalog.we-online.de/pbs/datasheet/885012105001.pdf; componentlink2description: DigiKey Link; componentlink2url: https://www.digikey.com/en/products/detail/würth-elektronik/885012105001/5453333; Device Package: 0402 (1005 Metric); lastupdated: 2/9/2024 8:04:37 PM; Lifecycle Status: Active; Minimum Order: 1; Mounting Type: Surface Mount, MLCC; Operating Temperature: -55°C ~ 85°C; Package / Case: 0402 (1005 Metric); packaging: TapeAndReel; partid: 1931; Part Status: Active; price: 0.01; series: WCAP-CSGP; Size / Dimension: 0.039" L x 0.020" W (1.00mm x 0.50mm); Supplier 1: DigiKey; Supplier Part Number 1: 732-7478-1-ND; Temperature Coefficient: X5R; Thickness (Max): 0.022" (0.55mm); Voltage - Rated: 6.3V
footprint CAP 0402_1005
pins: 1, 2

## ABM3B-25.000MHZ-D4Y-T
designator Y?
Crystal or Oscillator; Manufacturer_Name: ABRACON; Datasheet Link: https://abracon.com/Resonators/abm3b.pdf; Height: 1.1mm; Manufacturer_Part_Number: ABM3B-25.000MHZ-D4Y-T; Mouser Part Number: 815-ABM3B25MHZD4YT; Mouser Price/Stock: https://www.mouser.co.uk/ProductDetail/ABRACON/ABM3B-25.000MHZ-D4Y-T?qs=wnTfsH77Xs5UTK9SUhmiyA%3D%3D; Arrow Part Number: ABM3B-25.000MHZ-D4Y-T; Arrow Price/Stock: https://www.arrow.com/en/products/abm3b-25.000mhz-d4y-t/abracon
footprint ABM3B8000MHZ101UT
pins: 1, 2, 3, 4

## ABS07-32.768KHZ-T
designator XTAL?, comment 32.7680KHZ
Crystal 0.032768MHz ±20ppm (Tol) 12.5pF Flexural 70000Ohm 2-Pin CSMD T/R; Manufacturer: Abracon; Manufacturer Part Number: ABS07-32.768KHZ-T; ESR (Equivalent Series Resistance): 70kR; Frequency: 32.768kHz; Operating Frequency: 32.768 kHz; Supplier 1: Digikey; RoHS: Yes; Category: Crystals; Stock 1: 1532418; Pricing 1: 1=0.69, 10=0.576, 50=0.5184, 100=0.4607, 500=0.43768, 1000=0.36858 (USD); Case/Package: CSMD; Number of Pins: 2; Min Operating Temperature: -40°C; Max Operating Temperature: 85°C; Frequency Tolerance: 20ppm; Load Capacitance: 12.5pF; Package Quantity: 3000; Tolerance: 20ppm; Packaging: Tape and Reel; Termination: SMD/SMT; Series Resistance: 70kR; Series: ABS07; Length: 3.2mm; Width: 1.5mm; Height: 0.9mm; Depth: 1.5mm; Radiation Hardening: No; Reach SVHC Compliant: No; Lead Free: Lead Free; RoHS Compliant: Yes; ComponentLink1URL: https://datasheet.ciiva.com/7998/1912628-7998667.pdf?src-supplier=Element14; ComponentLink1Description: https://datasheet.ciiva.com/7998/1912628-7998667.pdf?src-supplier=Element14; ComponentLink2URL: https://datasheet.ciiva.com/1357/1883680-1357319.pdf?src-supplier=Element14; ComponentLink2Description: https://datasheet.ciiva.com/1357/1883680-1357319.pdf?src-supplier=Element14; ComponentLink3URL: https://datasheet.ciiva.com/854/abs07-854936.pdf?src-supplier=Digikey; ComponentLink3Description: https://datasheet.ciiva.com/854/abs07-854936.pdf?src-supplier=Digikey; ComponentLink4URL: https://datasheet.ciiva.com/854/abs07-854935.pdf?src-supplier=Digikey; ComponentLink4Description: https://datasheet.ciiva.com/854/abs07-854935.pdf?src-supplier=Digikey; ComponentLink5URL: https://datasheet.ciiva.com/854/abs07-854937.pdf?src-supplier=Digikey; ComponentLink5Description: https://datasheet.ciiva.com/854/abs07-854937.pdf?src-supplier=Digikey; ComponentLink6URL: https://datasheet.ciiva.com/4944/abs07-11028-4944830.pdf?src-supplier=Mouser; ComponentLink6Description: https://datasheet.ciiva.com/4944/abs07-11028-4944830.pdf?src-supplier=Mouser; ComponentLink7URL: https://datasheet.ciiva.com/15214/getdatasheetpartid-727011-15214954.pdf?src-supplier=Verical; ComponentLink7Description: https://datasheet.ciiva.com/15214/getdatasheetpartid-727011-15214954.pdf?src-supplier=Verical; Supplier Part Number 1: 535-9542-1-ND
footprint XTAL_ABS07-32.768KHZ-T
pins: 1, 2

## AC0402FR-0715K4L
designator R?
SMD Chip Resistor, 15.4 kOhm, ± 1%, 63 mW, 0402 [1005 Metric], Thick Film, General Purpose; Manufacturer: Yageo; Manufacturer Part Number: AC0402FR-0715K4L; Supplier 1: Digikey; RoHS: Yes; Category: Chip SMD Resistors; Stock 1: 10000; Pricing 1: 10000=0.00343, 20000=0.00304, 30000=0.00284, 50000=0.00263, 100000=0.00237 (USD); ComponentLink1URL: http://www.mouser.com/ds/2/447/yageodocoutput-1111992.pdf?src-supplier=Mouser; ComponentLink1Description: http://www.mouser.com/ds/2/447/yageodocoutput-1111992.pdf?src-supplier=Mouser; ComponentLink2URL: http://www.yageo.com/NewPortal/yageodocoutput?fileName=/pdf/R-Chip/PYu-AC_51_RoHS_L_6.pdf&src-supplier=Digikey; ComponentLink2Description: http://www.yageo.com/NewPortal/yageodocoutput?fileName=/pdf/R-Chip/PYu-AC_51_RoHS_L_6.pdf&src-supplier=Digikey; ComponentLink3URL: https://datasheet.octopart.com/AC0402FR-0715K4L-Yageo-datasheet-151884373.pdf?src-supplier=Future+Electronics; ComponentLink3Description: https://datasheet.octopart.com/AC0402FR-0715K4L-Yageo-datasheet-151884373.pdf?src-supplier=Future+Electronics; Supplier Part Number 1: 13-AC0402FR-0715K4LTR-ND
footprint RESC1005X37N
pins: 1, 2

## AC1206FR-07120RL
designator R?, comment 120 Ohms
RES SMD 120 OHM 1% 1/4W 1206; Part Number: AC1206FR-07120RL; Manufacturer: Yageo; Power (Watts): 0.25W, 1/4W; Temperature Coefficient: ±100ppm/°C; ComponentLink1Description: Datasheet; ComponentLink1URL: https://www.yageo.com/upload/media/product/productsearch/datasheet/rchip/PYu-AC_51_RoHS_L_7.pdf; ComponentLink2Description: DigiKey Link; ComponentLink2URL: https://www.digikey.com/en/products/detail/yageo/AC1206FR-07120RL/5897228; Composition: Thick Film; Device Package: 1206 (3216 Metric); Features: Automotive AEC-Q200, Moisture Resistant; Height - Seated (Max): 0.026" (0.65mm); LastUpdated: 2/9/2024 8:54:27 PM; Lifecycle Status: Active; Minimum Order: 1; Number of Terminations: 2; Operating Temperature: -55°C ~ 155°C; Package / Case: 1206 (3216 Metric); Packaging: TapeAndReel; PartId: 31141; Part Status: Active; Price: 0.01; Ratings: AEC-Q200; Resistance: 120 Ohms; Series: AC; Size / Dimension: 0.122" L x 0.063" W (3.10mm x 1.60mm); Supplier 1: DigiKey; Supplier Part Number 1: YAG3810CT-ND; Supplier Device Package: 1206; Tolerance: ±1%; Value: 120 Ohms
footprint RES 1206_3216
pins: 1, 2

## AC1206FR-07120RL_1
designator R?, comment 120 Ohms
RES SMD 120 OHM 1% 1/4W 1206; Part Number: AC1206FR-07120RL; Manufacturer: Yageo; Power (Watts): 0.25W, 1/4W; Temperature Coefficient: ±100ppm/°C; ComponentLink1Description: Datasheet; ComponentLink1URL: https://www.yageo.com/upload/media/product/productsearch/datasheet/rchip/PYu-AC_51_RoHS_L_7.pdf; ComponentLink2Description: DigiKey Link; ComponentLink2URL: https://www.digikey.com/en/products/detail/yageo/AC1206FR-07120RL/5897228; Composition: Thick Film; Device Package: 1206 (3216 Metric); Features: Automotive AEC-Q200, Moisture Resistant; Height - Seated (Max): 0.026" (0.65mm); LastUpdated: 2/9/2024 8:54:27 PM; Lifecycle Status: Active; Minimum Order: 1; Number of Terminations: 2; Operating Temperature: -55°C ~ 155°C; Package / Case: 1206 (3216 Metric); Packaging: TapeAndReel; PartId: 31141; Part Status: Active; Price: 0.01; Ratings: AEC-Q200; Resistance: 120 Ohms; Series: AC; Size / Dimension: 0.122" L x 0.063" W (3.10mm x 1.60mm); Supplier 1: DigiKey; Supplier Part Number 1: YAG3810CT-ND; Supplier Device Package: 1206; Tolerance: ±1%; Value: 120 Ohms
footprint RES 1206_3216
pins: 1, 2

## AC1206FR-07120RL_2
designator R?, comment 120 Ohms
RES SMD 120 OHM 1% 1/4W 1206; Part Number: AC1206FR-07120RL; Manufacturer: Yageo; Power (Watts): 0.25W, 1/4W; Temperature Coefficient: ±100ppm/°C; ComponentLink1Description: Datasheet; ComponentLink1URL: https://www.yageo.com/upload/media/product/productsearch/datasheet/rchip/PYu-AC_51_RoHS_L_7.pdf; ComponentLink2Description: DigiKey Link; ComponentLink2URL: https://www.digikey.com/en/products/detail/yageo/AC1206FR-07120RL/5897228; Composition: Thick Film; Device Package: 1206 (3216 Metric); Features: Automotive AEC-Q200, Moisture Resistant; Height - Seated (Max): 0.026" (0.65mm); LastUpdated: 2/9/2024 8:54:27 PM; Lifecycle Status: Active; Minimum Order: 1; Number of Terminations: 2; Operating Temperature: -55°C ~ 155°C; Package / Case: 1206 (3216 Metric); Packaging: TapeAndReel; PartId: 31141; Part Status: Active; Price: 0.01; Ratings: AEC-Q200; Resistance: 120 Ohms; Series: AC; Size / Dimension: 0.122" L x 0.063" W (3.10mm x 1.60mm); Supplier 1: DigiKey; Supplier Part Number 1: YAG3810CT-ND; Supplier Device Package: 1206; Tolerance: ±1%; Value: 120 Ohms
footprint RES 1206_3216
pins: 1, 2

## AC1206FR-07120RL_3
designator R?, comment 120 Ohms
RES SMD 120 OHM 1% 1/4W 1206; Part Number: AC1206FR-07120RL; Manufacturer: Yageo; Power (Watts): 0.25W, 1/4W; Temperature Coefficient: ±100ppm/°C; ComponentLink1Description: Datasheet; ComponentLink1URL: https://www.yageo.com/upload/media/product/productsearch/datasheet/rchip/PYu-AC_51_RoHS_L_7.pdf; ComponentLink2Description: DigiKey Link; ComponentLink2URL: https://www.digikey.com/en/products/detail/yageo/AC1206FR-07120RL/5897228; Composition: Thick Film; Device Package: 1206 (3216 Metric); Features: Automotive AEC-Q200, Moisture Resistant; Height - Seated (Max): 0.026" (0.65mm); LastUpdated: 2/9/2024 8:54:27 PM; Lifecycle Status: Active; Minimum Order: 1; Number of Terminations: 2; Operating Temperature: -55°C ~ 155°C; Package / Case: 1206 (3216 Metric); Packaging: TapeAndReel; PartId: 31141; Part Status: Active; Price: 0.01; Ratings: AEC-Q200; Resistance: 120 Ohms; Series: AC; Size / Dimension: 0.122" L x 0.063" W (3.10mm x 1.60mm); Supplier 1: DigiKey; Supplier Part Number 1: YAG3810CT-ND; Supplier Device Package: 1206; Tolerance: ±1%; Value: 120 Ohms
footprint RES 1206_3216
pins: 1, 2

## AC1206FR-07120RL_4
designator R?, comment 120 Ohms
RES SMD 120 OHM 1% 1/4W 1206; Part Number: AC1206FR-07120RL; Manufacturer: Yageo; Power (Watts): 0.25W, 1/4W; Temperature Coefficient: ±100ppm/°C; ComponentLink1Description: Datasheet; ComponentLink1URL: https://www.yageo.com/upload/media/product/productsearch/datasheet/rchip/PYu-AC_51_RoHS_L_7.pdf; ComponentLink2Description: DigiKey Link; ComponentLink2URL: https://www.digikey.com/en/products/detail/yageo/AC1206FR-07120RL/5897228; Composition: Thick Film; Device Package: 1206 (3216 Metric); Features: Automotive AEC-Q200, Moisture Resistant; Height - Seated (Max): 0.026" (0.65mm); LastUpdated: 2/9/2024 8:54:27 PM; Lifecycle Status: Active; Minimum Order: 1; Number of Terminations: 2; Operating Temperature: -55°C ~ 155°C; Package / Case: 1206 (3216 Metric); Packaging: TapeAndReel; PartId: 31141; Part Status: Active; Price: 0.01; Ratings: AEC-Q200; Resistance: 120 Ohms; Series: AC; Size / Dimension: 0.122" L x 0.063" W (3.10mm x 1.60mm); Supplier 1: DigiKey; Supplier Part Number 1: YAG3810CT-ND; Supplier Device Package: 1206; Tolerance: ±1%; Value: 120 Ohms
footprint RES 1206_3216
pins: 1, 2

## ACM7060-701-2PL-TL01
designator FL?, comment Manufacturer Part Number: ACM7060-701-2PL-TL01  (hidden comment: CMC 4A 2LN 700 OHM SMD)
2 Line Common Mode Choke Surface Mount 700 Ohms @ 100 MHz 4A DCR 15mOhm; Order Code: Digi: 445-2215-2-ND; LCSC Manufacturer Part Number: ACM7060-701-2PL-TL01; LCSC Part Number: C78246
footprint TDK_0_MFG
pins: 1, 2, 3, 4

## ACT45B-510-2P
designator T?
Ind Common Mode Filter Wirewound 51uH 2KOhm -30% to 50% 100KHz 200mA 1812 T/R; Manufacturer: TDK; Manufacturer Part Number: ACT45B-510-2P-TL003; Core Material: Ferrite; Impedance: 2.8kR; DC Resistance (DCR): 1R; Number of Lines: 2; Voltage Rating (DC): 50V; Test Frequency: 10MHz; Insulation Resistance: 10MR; Element Configuration: Dual; Supplier 1: Digi-Key; Supplier Part Number 1: 445-3958-1-ND; RoHS: Yes; Category: Fixed Inductors; Stock 1: 75821; Pricing 1: 1=1,95000, 10=1,80000, 25=1,65000, 50=1,41000, 100=1,26000, 250=1,08000, 500=1,02000, 1000=0,93000 (USD); Mount: Surface Mount; Case/Package: 1812; Number of Pins: 4; Case Code (Imperial): 1812; Min Operating Temperature: -40°C; Max Operating Temperature: 150°C; Inductance: 51uH; Packaging: Tape and Reel; Package Quantity: 2000; Tolerance: 50%; Current Rating: 200mA; Max DC Current: 200mA; Current: 200mA; Voltage Rating: 50V; Termination: SMD/SMT; DC Current: 200mA; Self Resonant Frequency: 10MHz; Length: 4.7mm; Width: 3.2mm; Height: 2.8mm; Depth: 3.4mm; Radiation Hardening: No; REACH SVHC: No SVHC; Lead Free: Lead Free; Military Standard: Not; ComponentLink1URL: https://datasheet.ciiva.com/22726/1649098-22726290.pdf?src-supplier=Element14; ComponentLink1Description: https://datasheet.ciiva.com/22726/1649098-22726290.pdf?src-supplier=Element14; ComponentLink2URL: https://datasheet.ciiva.com/26793/act45b-510-2p-tl003-26793344.pdf?src-supplier=IIIC; ComponentLink2Description: https://datasheet.ciiva.com/26793/act45b-510-2p-tl003-26793344.pdf?src-supplier=IIIC; ComponentLink3URL: https://datasheet.ciiva.com/8498/e9711-act-8498633.pdf?src-supplier=Avnet; ComponentLink3Description: https://datasheet.ciiva.com/8498/e9711-act-8498633.pdf?src-supplier=Avnet; ComponentLink4URL: https://datasheet.ciiva.com/1007/e9711-act-1007931.pdf?src-supplier=Digi-Key; ComponentLink4Description: https://datasheet.ciiva.com/1007/e9711-act-1007931.pdf?src-supplier=Digi-Key; ComponentLink5URL: https://datasheet.ciiva.com/15191/getdatasheetpartid-349822-15191803.pdf?src-supplier=Verical; ComponentLink5Description: https://datasheet.ciiva.com/15191/getdatasheetpartid-349822-15191803.pdf?src-supplier=Verical; ComponentLink6URL: https://datasheet.ciiva.com/1007/e9711-act-1007932.pdf?src-supplier=Digi-Key; ComponentLink6Description: https://datasheet.ciiva.com/1007/e9711-act-1007932.pdf?src-supplier=Digi-Key; ComponentLink7URL: https://datasheet.ciiva.com/1007/e9711-act-1007933.pdf?src-supplier=Digi-Key; ComponentLink7Description: https://datasheet.ciiva.com/1007/e9711-act-1007933.pdf?src-supplier=Digi-Key; ComponentLink8URL: https://datasheet.ciiva.com/7649/1833202-7649183.pdf?src-supplier=Element14; ComponentLink8Description: https://datasheet.ciiva.com/7649/1833202-7649183.pdf?src-supplier=Element14; LCSC Manufacturer Part Number: ACT45B-510-2P-TL003; LCSC Part Number: C76584
footprint TDK_ACT45B-510-2P-TL003_0
footprint TDK_ACT45B-510-2P-TL003_0
pins: 1, 2, 3, 4

## ACT45B-510-2P_1
designator T?, comment ACT45B-510-2P
Ind Common Mode Filter Wirewound 51uH 2KOhm -30% to 50% 100KHz 200mA 1812 T/R; Manufacturer: TDK; Manufacturer Part Number: ACT45B-510-2P-TL003; Core Material: Ferrite; Impedance: 2.8kR; DC Resistance (DCR): 1R; Number of Lines: 2; Voltage Rating (DC): 50V; Test Frequency: 10MHz; Insulation Resistance: 10MR; Element Configuration: Dual; Supplier 1: Digi-Key; Supplier Part Number 1: 445-3958-1-ND; RoHS: Yes; Category: Fixed Inductors; Stock 1: 75821; Pricing 1: 1=1,95000, 10=1,80000, 25=1,65000, 50=1,41000, 100=1,26000, 250=1,08000, 500=1,02000, 1000=0,93000 (USD); Mount: Surface Mount; Case/Package: 1812; Number of Pins: 4; Case Code (Imperial): 1812; Min Operating Temperature: -40°C; Max Operating Temperature: 150°C; Inductance: 51uH; Packaging: Tape and Reel; Package Quantity: 2000; Tolerance: 50%; Current Rating: 200mA; Max DC Current: 200mA; Current: 200mA; Voltage Rating: 50V; Termination: SMD/SMT; DC Current: 200mA; Self Resonant Frequency: 10MHz; Length: 4.7mm; Width: 3.2mm; Height: 2.8mm; Depth: 3.4mm; Radiation Hardening: No; REACH SVHC: No SVHC; Lead Free: Lead Free; Military Standard: Not; ComponentLink1URL: https://datasheet.ciiva.com/22726/1649098-22726290.pdf?src-supplier=Element14; ComponentLink1Description: https://datasheet.ciiva.com/22726/1649098-22726290.pdf?src-supplier=Element14; ComponentLink2URL: https://datasheet.ciiva.com/26793/act45b-510-2p-tl003-26793344.pdf?src-supplier=IIIC; ComponentLink2Description: https://datasheet.ciiva.com/26793/act45b-510-2p-tl003-26793344.pdf?src-supplier=IIIC; ComponentLink3URL: https://datasheet.ciiva.com/8498/e9711-act-8498633.pdf?src-supplier=Avnet; ComponentLink3Description: https://datasheet.ciiva.com/8498/e9711-act-8498633.pdf?src-supplier=Avnet; ComponentLink4URL: https://datasheet.ciiva.com/1007/e9711-act-1007931.pdf?src-supplier=Digi-Key; ComponentLink4Description: https://datasheet.ciiva.com/1007/e9711-act-1007931.pdf?src-supplier=Digi-Key; ComponentLink5URL: https://datasheet.ciiva.com/15191/getdatasheetpartid-349822-15191803.pdf?src-supplier=Verical; ComponentLink5Description: https://datasheet.ciiva.com/15191/getdatasheetpartid-349822-15191803.pdf?src-supplier=Verical; ComponentLink6URL: https://datasheet.ciiva.com/1007/e9711-act-1007932.pdf?src-supplier=Digi-Key; ComponentLink6Description: https://datasheet.ciiva.com/1007/e9711-act-1007932.pdf?src-supplier=Digi-Key; ComponentLink7URL: https://datasheet.ciiva.com/1007/e9711-act-1007933.pdf?src-supplier=Digi-Key; ComponentLink7Description: https://datasheet.ciiva.com/1007/e9711-act-1007933.pdf?src-supplier=Digi-Key; ComponentLink8URL: https://datasheet.ciiva.com/7649/1833202-7649183.pdf?src-supplier=Element14; ComponentLink8Description: https://datasheet.ciiva.com/7649/1833202-7649183.pdf?src-supplier=Element14; LCSC Manufacturer Part Number: ACT45B-510-2P-TL003; LCSC Part Number: C76584
footprint TDK_ACT45B-510-2P-TL003_0
pins: 1, 2, 3, 4

## ACT1210-510-2P-TL00
designator FL?
51 µH @ 100 kHz 2 Line Common Mode Choke Surface Mount 2.6 kOhms @ 10 MHz 200mA DCR 700mOhm; Manufacturer Part Number: ACT1210-510-2P-TL00; Manufacturer: TDK; Supplier Part Number: Digi; 445-172389-2-ND
footprint FIL_ACT1210-510-2P-TL00
pins: 1, 2, 3, 4

## ADG5404BRUZ
designator U?
IC MUX 4:1 10OHM 14TSSOP; Manufacturer: Analog Devices Inc.; Value: ADG5404BRUZ; Manufacturer Part Number: ADG5404BRUZ; Supplier Part Number: ADG5404BRUZ
footprint TSSOP-14 (Footprint not found)
pins: 1 A0 (in), 2 EN (in), 3 VSS (power), 4 S1 (io), 5 S2 (io), 6 COM (io), 7 NC3, 8 NC1, 9 NC2, 10 S4 (io), 11 S3 (io), 12 VDD (power), 13 GND (power), 14 A1 (in)

## ADM3074EARZ-REEL7
designator U?
Single Transmitter/Receiver RS-422/RS-485 8-Pin SOIC N T/R; Manufacturer: Analog Devices; Manufacturer Part Number: ADM3074EARZ-REEL7; Data Rate: 500Kbps; Number of Receivers: 1; Operating Supply Voltage: 3.3V; Min Supply Voltage: 3V; Max Supply Voltage: 3.6V; Operating Supply Current: 1.5mA; Simplex/Duplex: Full Duplex; Receiver Hysteresis: 100mV; Supplier 1: Digikey; RoHS: Yes; Category: RS-232 / RS-422 / RS-485 Interface ICs; Stock 1: 725; Pricing 1: 1=5.83, 10=5.24, 25=4.954, 100=4.2935, 250=4.07332, 500=3.65498 (USD); Mount: Surface Mount; Case/Package: SOIC; Number of Pins: 8; Min Operating Temperature: -40°C; Max Operating Temperature: 125°C; Packaging: Tape and Reel; Package Quantity: 1000; Number of Transmitters: 1; Logic Function: Receiver; Number of Drivers: 1; Number of Transceivers: 1; Series: -; Supply Current: 1.5mA; Lead Free: Contains Lead; RoHS Compliant: Yes; ComponentLink1URL: http://www.mouser.com/ds/2/609/ADM3070E_3071E_3072E_3073E_3074E_3075E_3076E_3077E-878687.pdf?src-supplier=Mouser; ComponentLink1Description: http://www.mouser.com/ds/2/609/ADM3070E_3071E_3072E_3073E_3074E_3075E_3076E_3077E-878687.pdf?src-supplier=Mouser; ComponentLink2URL: http://components.arrow.com/part/dataview/43007547S8418233N2771?src-supplier=Arrow+Electronics; ComponentLink2Description: http://components.arrow.com/part/dataview/43007547S8418233N2771?src-supplier=Arrow+Electronics; ComponentLink3URL: http://www.analog.com/static/imported-files/data_sheets/ADM3070E_3071E_3072E_3073E_3074E_3075E_3076E_3077E_3078E.pdf?src-supplier=Avnet; ComponentLink3Description: http://www.analog.com/static/imported-files/data_sheets/ADM3070E_3071E_3072E_3073E_3074E_3075E_3076E_3077E_3078E.pdf?src-supplier=Avnet; ComponentLink4URL: http://www.analog.com/media/en/technical-documentation/data-sheets/ADM3070E_3071E_3072E_3073E_3074E_3075E_3076E_3077E_3078E.pdf?src-supplier=Digikey; ComponentLink4Description: http://www.analog.com/media/en/technical-documentation/data-sheets/ADM3070E_3071E_3072E_3073E_3074E_3075E_3076E_3077E_3078E.pdf?src-supplier=Digikey; Supplier Part Number 1: 505-ADM3074EARZ-REEL7CT-ND
footprint SOIC127P600X175-8N
pins: 1 VCC (power), 2 RO (out), 3 DI (in), 4 GND, 5 Y (out), 6 Z (out), 7 B (in), 8 A (in)

## ADM4855ARZ
designator U?, comment Manufacturer Part Number: ADM4855ARZ  (hidden comment: IC TRANSCEIVER FULL 1/1 8SOIC)
1/1 Transceiver Full RS422, RS485 8-SOIC
footprint Analog_Devices_R-8_IPC_B
pins: 1 VCC (power), 2 RO (out), 3 DI (in), 4 GND (power), 5 Y (out), 6 Z (out), 7 B (in), 8 A (in)